# Altium schematic symbol library SN74LVC1G06DCKT.SchLib: 1 symbol
Pins are listed as number, name and electrical type; pins without a type are passive.

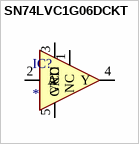
[diagram p0: symbol SN74LVC1G06DCKT]

## SN74LVC1G06DCKT
designator IC?
Integrated Circuit; Manufacturer_Name: Texas Instruments; Manufacturer_Part_Number: SN74LVC1G06DCKT; Description: Single Inverter Buffer/Driver With Open-Drain Output; Datasheet Link: http://www.ti.com/lit/gpn/sn74lvc1g06; Height: 1.1mm; Mouser Part Number: 595-SN74LVC1G06DCKT; Mouser Price/Stock: https://www.mouser.co.uk/ProductDetail/Texas-Instruments/SN74LVC1G06DCKT?qs=pajgIaoyDUgT6MJoS5pgkQ%3D%3D; Arrow Part Number: SN74LVC1G06DCKT; Arrow Price/Stock: https://www.arrow.com/en/products/sn74lvc1g06dckt/texas-instruments?region=nac
footprint 5PIN-SC70
pins: 1 NC, 2 A, 3 GND, 4 Y, 5 VCC